# EAGLE library part CM108 (library cmedia)
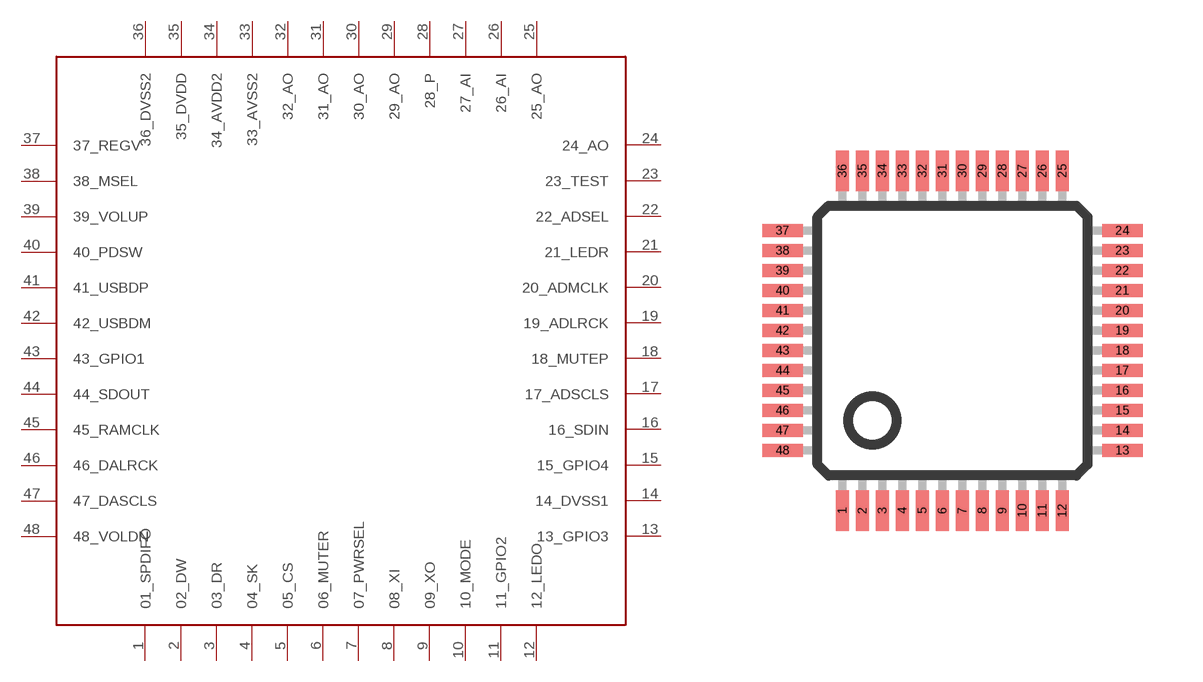
[diagram p2: symbol with the pads of LQFP-48; footprint LQFP-48]

Designator prefix -

## CM108  [LQFP-48]
1  01_SPDIFO
2  02_DW
3  03_DR
4  04_SK
5  05_CS
6  06_MUTER
7  07_PWRSEL
8  08_XI
9  09_XO
10  10_MODE
11  11_GPIO2
12  12_LEDO
13  13_GPIO3
14  14_DVSS1
15  15_GPIO4
16  16_SDIN
17  17_ADSCLS
18  18_MUTEP
19  19_ADLRCK
20  20_ADMCLK
21  21_LEDR
22  22_ADSEL
23  23_TEST
24  24_AO
25  25_AO
26  26_AI
27  27_AI
28  28_P
29  29_AO
30  30_AO
31  31_AO
32  32_AO
33  33_AVSS2
34  34_AVDD2
35  35_DVDD
36  36_DVSS2
37  37_REGV
38  38_MSEL
39  39_VOLUP
40  40_PDSW
41  41_USBDP
42  42_USBDM
43  43_GPIO1
44  44_SDOUT
45  45_RAMCLK
46  46_DALRCK
47  47_DASCLS
48  48_VOLDN

## Footprint LQFP-48 (pad centres in mm)
smd 0.318 x 1.016: 1 -2.75,-4.25; 2 -2.25,-4.25; 3 -1.75,-4.25; 4 -1.25,-4.25; 5 -0.75,-4.25; 6 -0.25,-4.25; 7 0.25,-4.25; 8 0.75,-4.25; 9 1.25,-4.25; 10 1.75,-4.25; 11 2.25,-4.25; 12 2.75,-4.25; 25 2.75,4.25; 26 2.25,4.25; 27 1.75,4.25; 28 1.25,4.25; 29 0.75,4.25; 30 0.25,4.25; 31 -0.25,4.25; 32 -0.75,4.25; 33 -1.25,4.25; 34 -1.75,4.25; 35 -2.25,4.25; 36 -2.75,4.25
smd 1.016 x 0.318: 13 4.25,-2.75; 14 4.25,-2.25; 15 4.25,-1.75; 16 4.25,-1.25; 17 4.25,-0.75; 18 4.25,-0.25; 19 4.25,0.25; 20 4.25,0.75; 21 4.25,1.25; 22 4.25,1.75; 23 4.25,2.25; 24 4.25,2.75; 37 -4.25,2.75; 38 -4.25,2.25; 39 -4.25,1.75; 40 -4.25,1.25; 41 -4.25,0.75; 42 -4.25,0.25; 43 -4.25,-0.25; 44 -4.25,-0.75; 45 -4.25,-1.25; 46 -4.25,-1.75; 47 -4.25,-2.25; 48 -4.25,-2.75